# Altium schematic symbol library K60-mainboard-v3.1.SCHLIB: 81 symbols
Pins are listed as number, name and electrical type; pins without a type are passive.

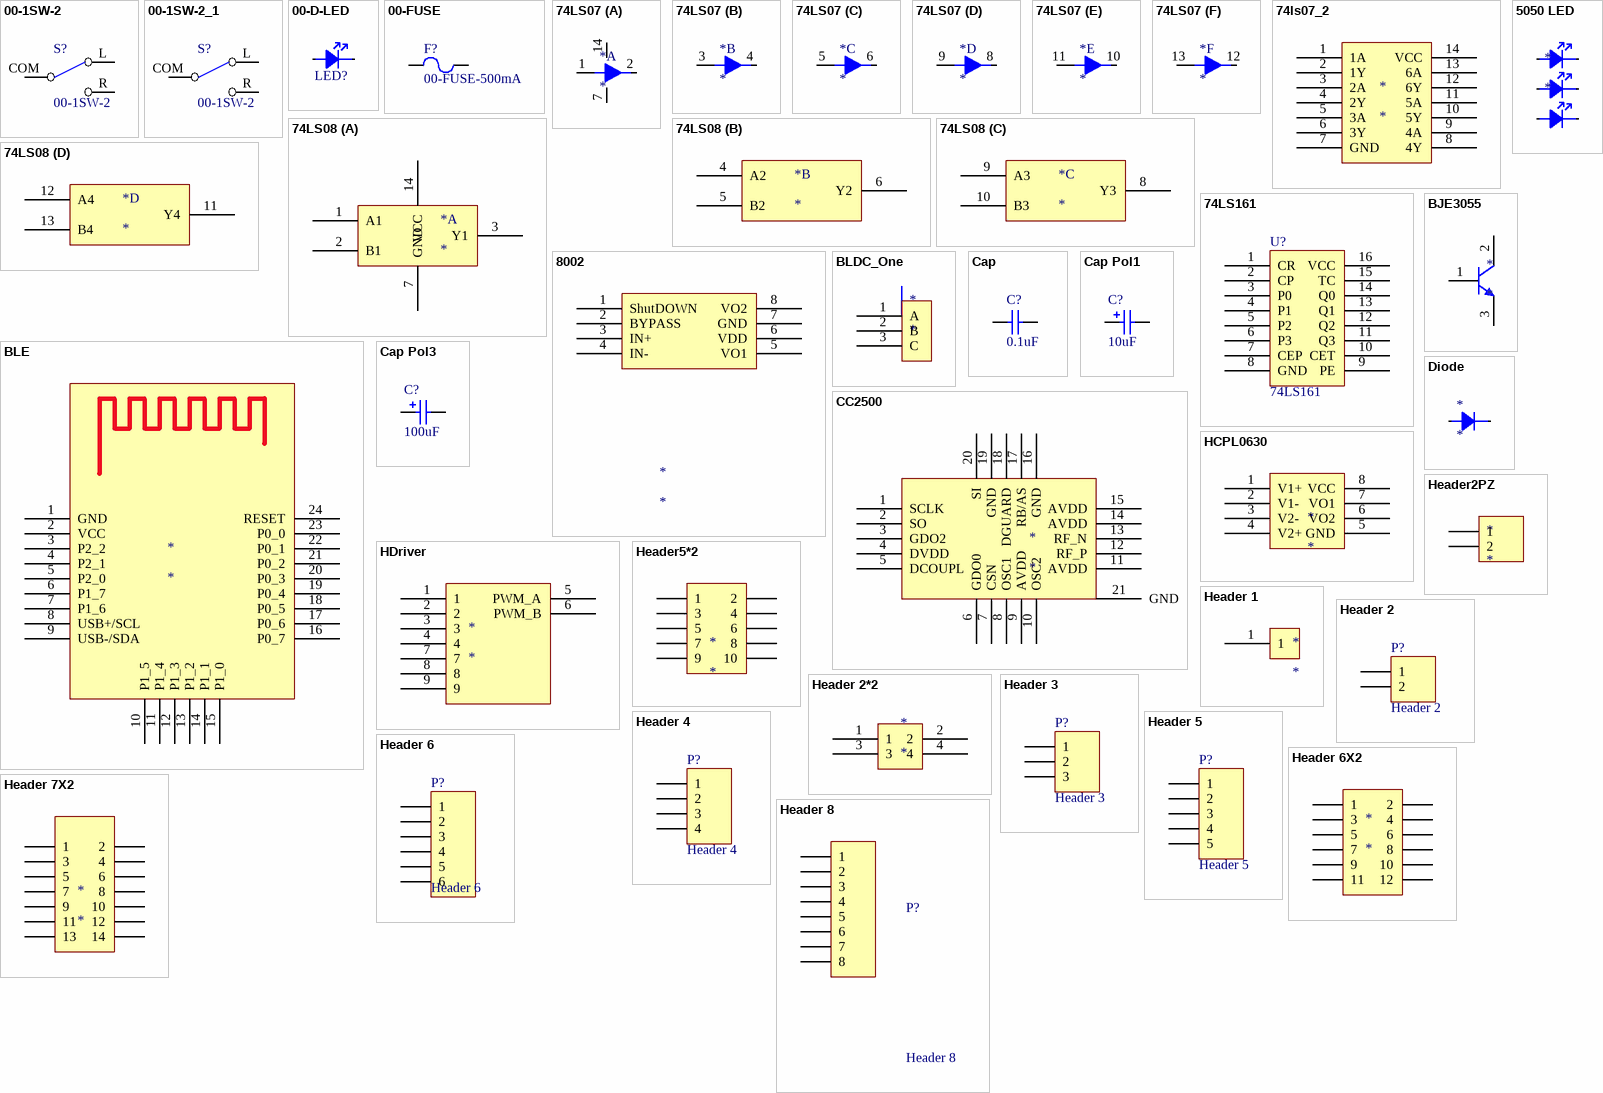
[diagram p0: symbols 00-1SW-2 to Header 8]

## 00-1SW-2
designator S?
footprint SW - duplicate - duplicate
pins: COM 2, L 1, R 3

## 00-1SW-2_1
designator S?, comment 00-1SW-2
footprint 单向大开关
pins: COM 2, L 1, R 3

## 00-D-LED
designator LED?, comment lED  (value not drawn)
footprint 0805D
pins: A 1, K 2

## 00-FUSE
designator F?, comment 00-FUSE-500mA
FUSE
footprint 0805R
pins: 1, 2
2 alternate drawings of the same symbol

## 74LS07
designator *
footprint 74ls07
part A pins: 1 4, 2 4, 7 GND, 14 VCC, A2 3
part B pins: 3 4, 4, A2 3
part C pins: 5 4, 6 4, A2 3
part D pins: 8 4, 9 4, A2 3
part E pins: 10 4, 11 4, A2 3
part F pins: 12 4, 13 4, A2 3

## 74ls07_2
designator *
footprint 74ls07
pins: 1 1A, 2 1Y, 3 2A, 4 2Y, 5 3A, 6 3Y, 7 GND, 8 4Y, 9 4A, 10 5Y, 11 5A, 12 6Y, 13 6A, 14 VCC

## 74LS08
designator *
part A pins: 1 A1, 2 B1, 3 Y1, 7 GND, 14 VCC
part B pins: 4 A2, 5 B2, 6 Y2
part C pins: 8 Y3, 9 A3, 10 B3
part D pins: 11 Y4, 12 A4, 13 B4

## 74LS161
designator U?
footprint 74LS161
pins: 1 CR, 2 CP, 3 P0, 4 P1, 5 P2, 6 P3, 7 CEP, 8 GND, 9 PE, 10 CET, 11 Q3, 12 Q2, 13 Q1, 14 Q0, 15 TC, 16 VCC

## 5050 LED
designator *
footprint 5050LED
pins: A1 1, A2 3, A3 5, K1 2, K2 4, K3 6

## 8002
designator *
footprint SO8
pins: 1 ShutDOWN, 2 BYPASS, 3 IN+, 4 IN-, 5 VO1, 6 VDD, 7 GND, 8 VO2

## BJE3055
designator *
pins: 1 B, 2 C, 3 E

## BLDC_One
designator *
footprint BLDC
pins: 1 A, 2 B, 3 C

## BLE
designator *
footprint BLE
pins: 1 GND, 2 VCC, 3 P2_2, 4 P2_1, 5 P2_0, 6 P1_7, 7 P1_6, 8 USB+/SCL, 9 USB-/SDA, 10 P1_5, 11 P1_4, 12 P1_3, 13 P1_2, 14 P1_1, 15 P1_0, 16 P0_7, 17 P0_6, 18 P0_5, 19 P0_4, 20 P0_3, 21 P0_2, 22 P0_1, 23 P0_0, 24 RESET

## Cap
designator C?  value 0.1uF  (hidden comment: Cap)
Capacitor; Published: 8-Jun-2000; LatestRevisionDate: 17-Jul-2002; LatestRevisionNote: Re-released for DXP Platform.; PackageReference: RAD-0.3; Publisher: Altium Limited
simulation model CAP (Capacitor)
signal-integrity model Cap
footprint 0805C
footprint CAP-MLCC-0603
pins: 1, 2

## Cap Pol1
designator C?  value 10uF  (hidden comment: Cap Pol1)
Polarized Capacitor (Radial); Published: 8-Jun-2000; LatestRevisionDate: 17-Jul-2002; LatestRevisionNote: Re-released for DXP Platform.; PackageReference: RB7.6-15; Publisher: Altium Limited
simulation model CAP (Capacitor)
signal-integrity model Cap Pol
footprint 6032C
pins: 1, 2
1 alternate drawing of the same symbol

## Cap Pol3
designator C?  value 100uF  (hidden comment: Cap Pol3)
Polarized Capacitor (Surface Mount); Published: 8-Jun-2000; LatestRevisionDate: 17-Jul-2002; LatestRevisionNote: Re-released for DXP Platform.; PackageReference: C0805; Publisher: Altium Limited
simulation model CAP (Capacitor)
signal-integrity model Cap Pol
footprint 6032C
footprint CAP-TAN-7343/CAPD
footprint SMD-EC-F10
pins: 1, 2
1 alternate drawing of the same symbol

## CC2500
designator *
footprint CC2500 (QFN, 20-Leads, Body 4.32x4.32mm, Pitch 0.50mm, Thermal Pad 2.40x2.20mm, IPC Low Density)
pins: 1 SCLK, 2 SO, 3 GDO2, 4 DVDD, 5 DCOUPL, 6 GDO0, 7 CSN, 8 OSC1, 9 AVDD, 10 OSC2, 11 AVDD, 12 RF_P, 13 RF_N, 14 AVDD, 15 AVDD, 16 GND, 17 RB/AS, 18 DGUARD, 19 GND, 20 SI, 21 GND

## Diode
designator *
footprint 0805D
footprint SS34
pins: A 1, K 2

## HCPL0630
designator *
footprint SOIC8
pins: 1 V1+, 2 V1-, 3 V2-, 4 V2+, 5 GND, 6 VO2, 7 VO1, 8 VCC

## HDriver
designator *
footprint Hdriver
pins: 1, 2, 3, 4, 5 PWM_A, 6 PWM_B, 7, 8, 9

## Header2PZ
designator *
footprint Header2 PZ
pins: 1, 2

## Header5*2
designator *
footprint Header 5X2
pins: 1, 2, 3, 4, 5, 6, 7, 8, 9, 10

## Header 1
designator *
footprint HeaderX1
pins: 1

## Header 2
designator P?
Header, 2-Pin; LatestRevisionDate: 17-Jul-2002; LatestRevisionNote: Re-released for DXP Platform.; Publisher: Altium Limited
signal-integrity model Connector
footprint J2-白色接口
pins: 1, 2

## Header 2*2
designator *
footprint PCBComponent_1
pins: 1, 2, 3, 4

## Header 3
designator P?
Header, 3-Pin; LatestRevisionDate: 17-Jul-2002; LatestRevisionNote: Re-released for DXP Platform.; Publisher: Altium Limited
footprint HDR1X3 (Connector; Header; 3 Position)
signal-integrity model Connector
pins: 1, 2, 3

## Header 4
designator P?
Header, 4-Pin; LatestRevisionDate: 17-Jul-2002; LatestRevisionNote: Re-released for DXP Platform.; Publisher: Altium Limited
footprint HDR1X4 (Connector; Header; 4 Position)
signal-integrity model Connector
footprint Green_4P
pins: 1, 2, 3, 4

## Header 5
designator P?
Header, 5-Pin; LatestRevisionDate: 17-Jul-2002; LatestRevisionNote: Re-released for DXP Platform.; Publisher: Altium Limited
footprint HDR1X5 (Connector; Header; 5 Position)
signal-integrity model Connector
pins: 1, 2, 3, 4, 5

## Header 6
designator P?
Header, 6-Pin; LatestRevisionDate: 17-Jul-2002; LatestRevisionNote: Re-released for DXP Platform.; Publisher: Altium Limited
signal-integrity model Connector
footprint HDR1X6 (Connector; Header; 5 Position)
pins: 1, 2, 3, 4, 5, 6

## Header 6X2
designator *
footprint Header 6X2
pins: 1, 2, 3, 4, 5, 6, 7, 8, 9, 10, 11, 12

## Header 7X2
designator *
footprint Header 7X2
pins: 1, 2, 3, 4, 5, 6, 7, 8, 9, 10, 11, 12, 13, 14

## Header 8
designator P?
Header, 8-Pin; LatestRevisionDate: 17-Jul-2002; LatestRevisionNote: Re-released for DXP Platform.; Publisher: Altium Limited
footprint HDR1X8 (Connector; Header; 8 Position)
signal-integrity model Connector
pins: 1, 2, 3, 4, 5, 6, 7, 8

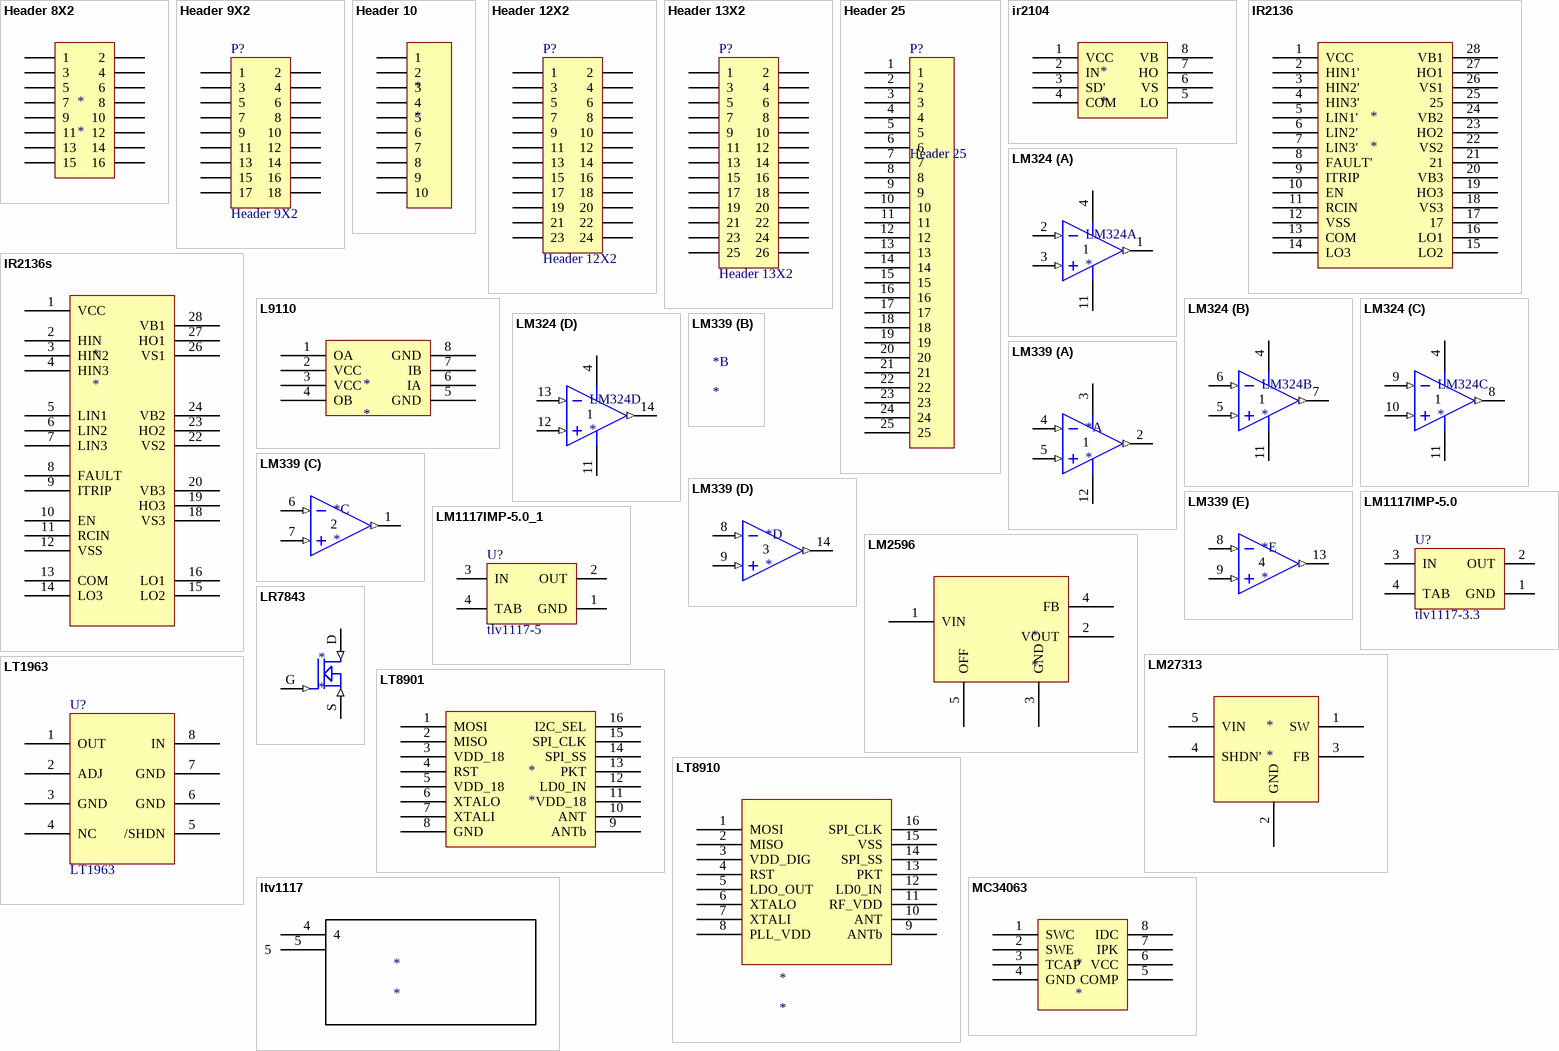
[diagram p1: symbols Header 8X2 to MC34063]

## Header 8X2
designator *
footprint Header 8X2
pins: 1, 2, 3, 4, 5, 6, 7, 8, 9, 10, 11, 12, 13, 14, 15, 16

## Header 9X2
designator P?
Header, 9-Pin, Dual row; LatestRevisionDate: 17-Jul-2002; LatestRevisionNote: Re-released for DXP Platform.; Publisher: Altium Limited
footprint HDR2X9 (Connector; Header; 9x2 Position)
signal-integrity model Connector
pins: 1, 2, 3, 4, 5, 6, 7, 8, 9, 10, 11, 12, 13, 14, 15, 16, 17, 18

## Header 10
designator *
pins: 1, 2, 3, 4, 5, 6, 7, 8, 9, 10

## Header 12X2
designator P?
Header, 12-Pin, Dual row; LatestRevisionDate: 17-Jul-2002; LatestRevisionNote: Re-released for DXP Platform.; Publisher: Altium Limited
footprint HDR2X12 (Connector; Header; 12x2 Position)
signal-integrity model Connector
pins: 1, 2, 3, 4, 5, 6, 7, 8, 9, 10, 11, 12, 13, 14, 15, 16, 17, 18, 19, 20, 21, 22, 23, 24

## Header 13X2
designator P?
Header, 13-Pin, Dual row; LatestRevisionDate: 17-Jul-2002; LatestRevisionNote: Re-released for DXP Platform.; Publisher: Altium Limited
footprint HDR2X13 (Connector; Header; 13x2 Position)
signal-integrity model Connector
pins: 1, 2, 3, 4, 5, 6, 7, 8, 9, 10, 11, 12, 13, 14, 15, 16, 17, 18, 19, 20, 21, 22, 23, 24, 25, 26

## Header 25
designator P?
Header, 25-Pin; LatestRevisionDate: 17-Jul-2002; LatestRevisionNote: Re-released for DXP Platform.; Publisher: Altium Limited
footprint HDR1X25_1.27
signal-integrity model Connector
pins: 1, 2, 3, 4, 5, 6, 7, 8, 9, 10, 11, 12, 13, 14, 15, 16, 17, 18, 19, 20, 21, 22, 23, 24, 25

## ir2104
designator *
footprint SOIC8
pins: 1 VCC, 2 IN, 3 SD', 4 COM, 5 LO, 6 VS, 7 HO, 8 VB

## IR2136
designator *
footprint SOIC 28 (SOIC, 28-Leads, Body 17.90x7.50mm, Pitch 1.27mm, IPC Medium Density)
pins: 1 VCC, 2 HIN1', 3 HIN2', 4 HIN3', 5 LIN1', 6 LIN2', 7 LIN3', 8 FAULT', 9 ITRIP, 10 EN, 11 RCIN, 12 VSS, 13 COM, 14 LO3, 15 LO2, 16 LO1, 17, 18 VS3, 19 HO3, 20 VB3, 21, 22 VS2, 23 HO2, 24 VB2, 25, 26 VS1, 27 HO1, 28 VB1

## IR2136s
designator *
footprint ir2136s
pins: 1 VCC, 2 HIN, 3 HIN2, 4 HIN3, 5 LIN1, 6 LIN2, 7 LIN3, 8 FAULT, 9 ITRIP, 10 EN, 11 RCIN, 12 VSS, 13 COM, 14 LO3, 15 LO2, 16 LO1, 17 hidden, 18 VS3, 19 HO3, 20 VB3, 21 hidden, 22 VS2, 23 HO2, 24 VB2, 25 hidden, 26 VS1, 27 HO1, 28 VB1

## L9110
designator *
footprint L9110
pins: 1 OA, 2 VCC, 3 VCC, 4 OB, 5 GND, 6 IA, 7 IB, 8 GND

## LM324
designator LM324
footprint SOP14
part A pins: 1 OUT (out), 2 IN- (in), 3 IN+ (in), 4 VEE (power), 11 VEE (power)
part B pins: 4 VEE (power), 5 IN+ (in), 6 IN- (in), 7 OUT (out), 11 VEE (power)
part C pins: 4 VEE (power), 8 OUT (out), 9 IN- (in), 10 IN+ (in), 11 VEE (power)
part D pins: 4 VEE (power), 11 VEE (power), 12 IN+ (in), 13 IN- (in), 14 OUT (out)

## LM339
designator *
part A pins: 2 OUT (out), 3 VEE (power), 4 IN- (in), 5 IN+ (in), 12 (power)
part C pins: 1 OUT (out), 6 IN- (in), 7 IN+ (in)
part D pins: 8 IN- (in), 9 IN+ (in), 14 OUT (out)
part E pins: 8 IN- (in), 9 IN+ (in), 13 OUT (out)

## LM1117IMP-5.0
designator U?, comment tlv1117-3.3
800mA Low-Dropout Linear Regulator; PartNumber: LM1117IMP-5.0; Manufacturer: National Semiconductor; CompType: LDO IC; PackageTopMarking: XYTT*N06B; PowerWise: N; Published: 4-Dec-2008; DatasheetVersion: Apr-2006; PackageVersion: revB, Apr-2003; PackageReference: MP04A; Publisher: Altium Limited; PackageDescription: Molded SOT-223, 6.50 x 3.56 x 1.6mm Body, 4 Lead, 2.3mm Pitch; RoHS: O; PinCount: 4; DigiKeyPartNumber: LM1117IMP-5.0CT-ND; Code_JEDEC: TO-261-AA; Code_IPC: SOT223-4; ComponentLink1Description: LM1117 Datasheet; ComponentLink1URL: http://www.national.com/ds/LM/LM1117.pdf; ComponentLink2Description: LM1117 Web Page; ComponentLink2URL: http://www.national.com/pf/LM/LM1117.html; ComponentLink3Description: MP04A Package Page; ComponentLink3URL: http://www.national.com/packaging/folders/mp04a.html
footprint LM1117
pins: 1 GND (power), 2 OUT (power), 3 IN (power), 4 TAB (power)

## LM1117IMP-5.0_1
designator U?, comment tlv1117-5
800mA Low-Dropout Linear Regulator; PartNumber: LM1117IMP-5.0; Manufacturer: National Semiconductor; CompType: LDO IC; PackageTopMarking: XYTT*N06B; PowerWise: N; Published: 4-Dec-2008; DatasheetVersion: Apr-2006; PackageVersion: revB, Apr-2003; PackageReference: MP04A; Publisher: Altium Limited; PackageDescription: Molded SOT-223, 6.50 x 3.56 x 1.6mm Body, 4 Lead, 2.3mm Pitch; RoHS: O; PinCount: 4; DigiKeyPartNumber: LM1117IMP-5.0CT-ND; Code_JEDEC: TO-261-AA; Code_IPC: SOT223-4; ComponentLink1Description: LM1117 Datasheet; ComponentLink1URL: http://www.national.com/ds/LM/LM1117.pdf; ComponentLink2Description: LM1117 Web Page; ComponentLink2URL: http://www.national.com/pf/LM/LM1117.html; ComponentLink3Description: MP04A Package Page; ComponentLink3URL: http://www.national.com/packaging/folders/mp04a.html
footprint LM1117
pins: 1 GND (power), 2 OUT (power), 3 IN (power), 4 TAB (power)

## LM2596
designator *
pins: 1 VIN, 2 VOUT, 3 GND, 4 FB, 5 OFF

## LM27313
designator *
footprint LM27313 (SOT23, 5-Leads, Body 2.90x2.80mm, Pitch 0.95mm, IPC Medium Density)
pins: 1 SW, 2 GND, 3 FB, 4 SHDN', 5 VIN

## LR7843
designator *
footprint LR7843 (D-PAK, 3-Pads, Body 6.20x6.72mm (max), IPC Medium Density)
pins: D (in), G (in), S (in)

## LT1963
designator U?
LT1963-ADJ
footprint LT1963
pins: 1 OUT, 2 ADJ, 3 GND, 4 NC, 5 /SHDN, 6 GND, 7 GND, 8 IN

## LT8901
designator *
footprint SOP16
pins: 1 MOSI, 2 MISO, 3 VDD_18, 4 RST, 5 VDD_18, 6 XTALO, 7 XTALI, 8 GND, 9 ANTb, 10 ANT, 11 VDD_18, 12 LD0_IN, 13 PKT, 14 SPI_SS, 15 SPI_CLK, 16 I2C_SEL

## LT8910
designator *
footprint LT8910 (SOP, 16-Leads, Body 4.90x3.90mm, Pitch 0.64mm, IPC Medium Density)
pins: 1 MOSI, 2 MISO, 3 VDD_DIG, 4 RST, 5 LDO_OUT, 6 XTALO, 7 XTALI, 8 PLL_VDD, 9 ANTb, 10 ANT, 11 RF_VDD, 12 LD0_IN, 13 PKT, 14 SPI_SS, 15 VSS, 16 SPI_CLK

## ltv1117
designator *
pins: 4, 5

## MC34063
designator *
pins: 1 SWC, 2 SWE, 3 TCAP, 4 GND, 5 COMP, 6 VCC, 7 IPK, 8 IDC

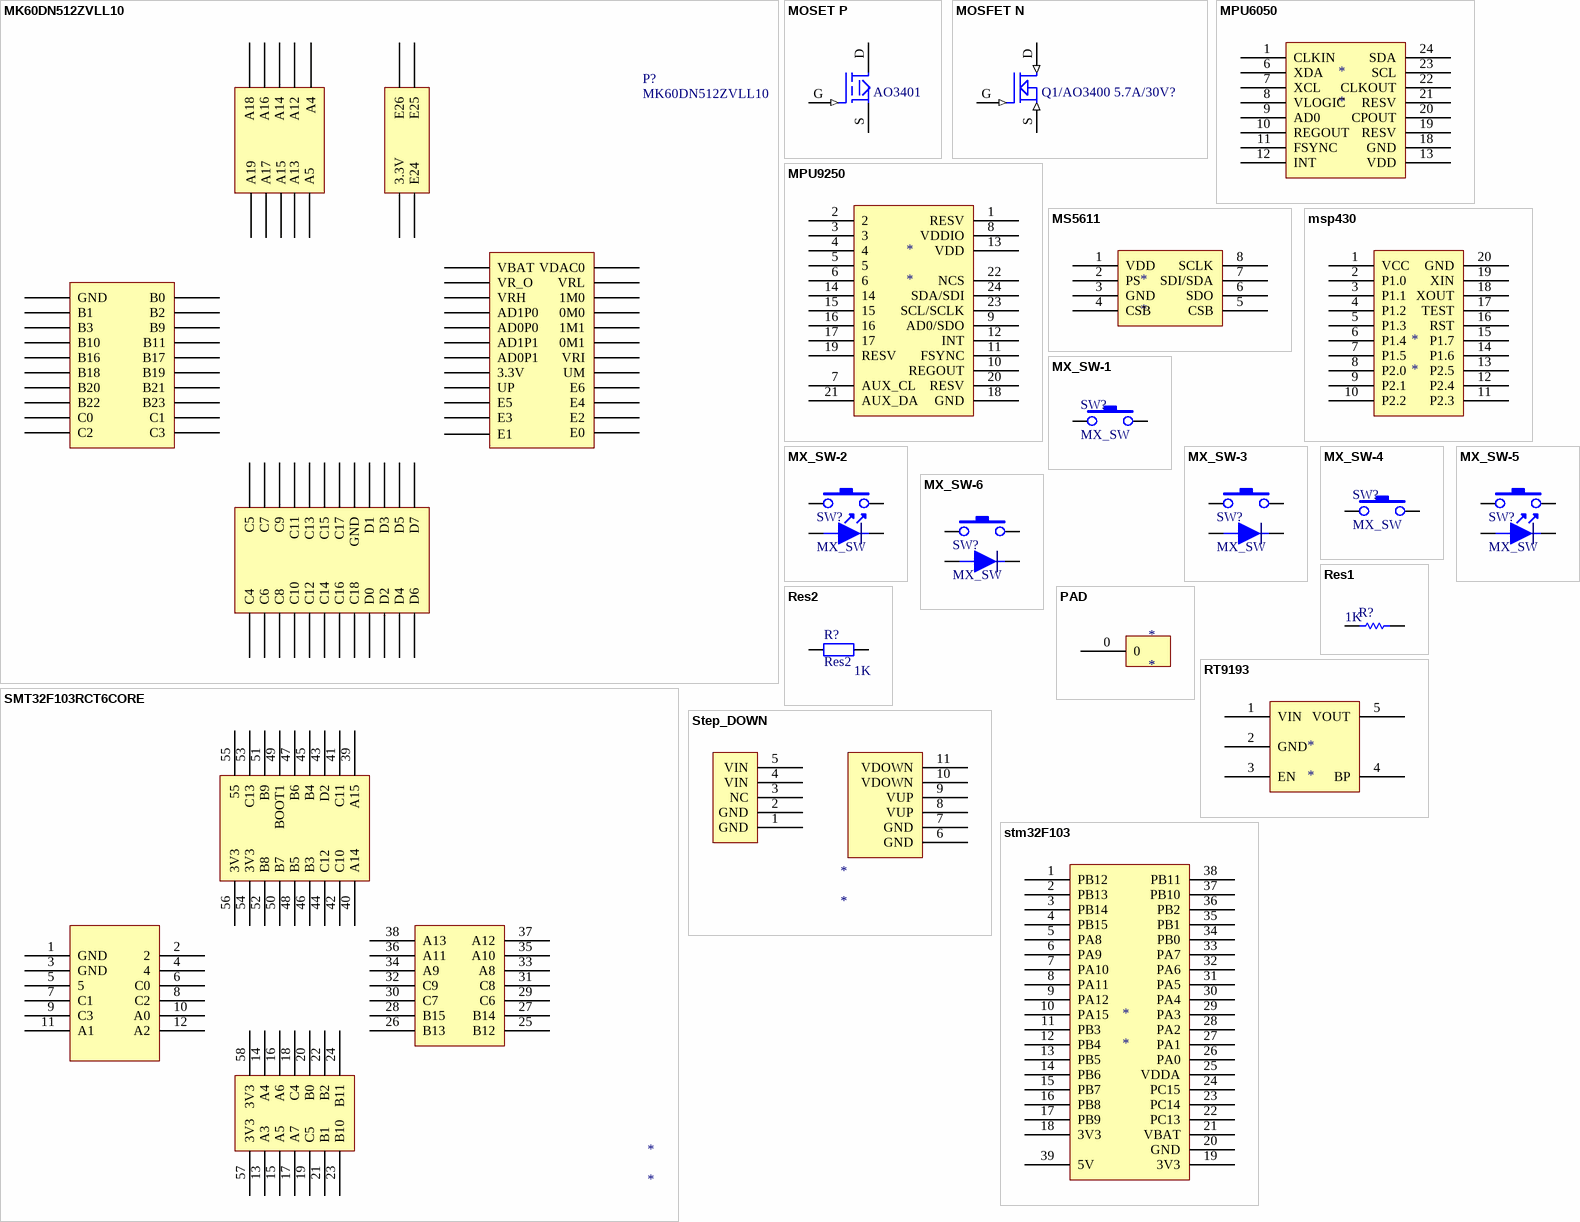
[diagram p2: symbols MK60DN512ZVLL10 to stm32F103]

## MK60DN512ZVLL10
designator P?
footprint MK60DN512ZVLL10
pins: 1 E0, 2 E1, 3 E2, 4 E3, 5 E4, 6 E5, 7 E6, 8 UP, 9 UM, 10 3.3V, 11 VRI, 12 AD0P1, 13 0M1, 14 AD1P1, 15 1M1, 16 AD0P0, 17 0M0, 18 AD1P0, 19 1M0, 20 VRH, 21 VRL, 22 VR_O, 23 VDAC0, 24 VBAT, 25 E24, 26 E25, 27 3.3V, 28 E26, 29 A5, 30 A4, 31 A13, 32 A12, 33 A15, 34 A14, 35 A17, 36 A16, 37 A19, 38 A18, 39 GND, 40 B0, 41 B1, 42 B2, 43 B3, 44 B9, 45 B10, 46 B11, 47 B16, 48 B17, 49 B18, 50 B19, 51 B20, 52 B21, 53 B22, 54 B23, 55 C0, 56 C1, 57 C2, 58 C3, 59 C4, 60 C5, 61 C6, 62 C7, 63 C8, 64 C9, 65 C10, 66 C11, 67 C12, 68 C13, 69 C14, 70 C15, 71 C16, 72 C17, 73 C18, 74 GND, 75 D0, 76 D1, 77 D2, 78 D3, 79 D4, 80 D5, 81 D6, 82 D7

## MOSET P
designator AO3401, comment MOSFET P  (value not drawn)
footprint NMOS_SOT23
pins: D, G (in), S

## MOSFET N
designator Q1/AO3400 5.7A/30V?  (value not drawn)
footprint NMOS_SOT23
pins: D (in), G (in), S (in)

## MPU6050
designator *
footprint MPU6050 (QFN, 24-Leads, Body 4.00x4.00mm, Pitch 0.50mm, Thermal Pad 2.60x2.70mm, IPC Medium Density)
pins: 1 CLKIN, 6 XDA, 7 XCL, 8 VLOGIC, 9 AD0, 10 REGOUT, 11 FSYNC, 12 INT, 13 VDD, 18 GND, 19 RESV, 20 CPOUT, 21 RESV, 22 CLKOUT, 23 SCL, 24 SDA

## MPU9250
designator *
footprint MPU9250 (QFN, 24-Leads, Body 3.00x3.00mm, Pitch 0.40mm, Thermal Pad 1.54x1.70mm, IPC Medium Density)
pins: 1 RESV, 2, 3, 4, 5, 6, 7 AUX_CL, 8 VDDIO, 9 AD0/SDO, 10 REGOUT, 11 FSYNC, 12 INT, 13 VDD, 14, 15, 16, 17, 18 GND, 19 RESV, 20 RESV, 21 AUX_DA, 22 NCS, 23 SCL/SCLK, 24 SDA/SDI

## MS5611
designator *
footprint MS5611
pins: 1 VDD, 2 PS, 3 GND, 4 CSB, 5 CSB, 6 SDO, 7 SDI/SDA, 8 SCLK

## msp430
designator *
pins: 1 VCC, 2 P1.0, 3 P1.1, 4 P1.2, 5 P1.3, 6 P1.4, 7 P1.5, 8 P2.0, 9 P2.1, 10 P2.2, 11 P2.3, 12 P2.4, 13 P2.5, 14 P1.6, 15 P1.7, 16 RST, 17 TEST, 18 XOUT, 19 XIN, 20 GND

## MX_SW-1
designator SW?, comment MX_SW
without Fixation pins  1-Pole
footprint MX_SW-1 (without Fixation pins  1-Pole)
pins: 1, 2

## MX_SW-2
designator SW?, comment MX_SW
without Fixation pins  1-Pole w/LED
footprint MX_SW-2 (without Fixation pins  1-Pole w/LED)
pins: 1, 2, 3, 4

## MX_SW-3
designator SW?, comment MX_SW
without Fixation pins  1-Pole w/Diode
footprint MX_SW-3 (without Fixation pins  1-Pole w/Diode)
pins: 1, 2, 3, 4

## MX_SW-4
designator SW?, comment MX_SW
with Fixation pins  1-Pole
footprint MX_SW-4 (with Fixation pins  1-Pole)
pins: 1, 2

## MX_SW-5
designator SW?, comment MX_SW
with Fixation pins  1-Pole w/LED
footprint MX_SW-5 (with Fixation pins  1-Pole w/LED)
pins: 1, 2, 3, 4

## MX_SW-6
designator SW?, comment MX_SW
with Fixation pins  1-Pole w/Diode
footprint MX_SW-6 (with Fixation pins  1-Pole w/Diode)
pins: 1, 2, 3, 4

## PAD
designator *
footprint PAD
pins: 0

## Res1
designator R?  value 1K  (hidden comment: Res1)
Resistor; Published: 8-Jun-2000; LatestRevisionDate: 17-Jul-2002; LatestRevisionNote: Re-released for DXP Platform.; PackageReference: AXIAL-0.3; Publisher: Altium Limited
footprint 0805R
simulation model RESISTOR (Resistor)
signal-integrity model Res
footprint RES-0603
footprint 2512R
pins: 1, 2

## Res2
designator R?  value 1K
Resistor; Published: 8-Jun-2000; LatestRevisionDate: 17-Jul-2002; LatestRevisionNote: Re-released for DXP Platform.; PackageReference: AXIAL-0.4; Publisher: Altium Limited
simulation model RESISTOR (Resistor)
signal-integrity model Res
footprint 0805R
pins: 1, 2

## RT9193
designator *
footprint RT9193
pins: 1 VIN, 2 GND, 3 EN, 4 BP, 5 VOUT

## SMT32F103RCT6CORE
designator *
footprint STM32103core
pins: 1 GND, 2, 3 GND, 4, 5, 6 C0, 7 C1, 8 C2, 9 C3, 10 A0, 11 A1, 12 A2, 13 A3, 14 A4, 15 A5, 16 A6, 17 A7, 18 C4, 19 C5, 20 B0, 21 B1, 22 B2, 23 B10, 24 B11, 25 B12, 26 B13, 27 B14, 28 B15, 29 C6, 30 C7, 31 C8, 32 C9, 33 A8, 34 A9, 35 A10, 36 A11, 37 A12, 38 A13, 39 A15, 40 A14, 41 C11, 42 C10, 43 D2, 44 C12, 45 B4, 46 B3, 47 B6, 48 B5, 49 BOOT1, 50 B7, 51 B9, 52 B8, 53 C13, 54 3V3, 55, 56 3V3, 57 3V3, 58 3V3

## Step_DOWN
designator *
pins: 1 GND, 2 GND, 3 NC, 4 VIN, 5 VIN, 6 GND, 7 GND, 8 VUP, 9 VUP, 10 VDOWN, 11 VDOWN

## stm32F103
designator *
footprint STM32
pins: 1 PB12, 2 PB13, 3 PB14, 4 PB15, 5 PA8, 6 PA9, 7 PA10, 8 PA11, 9 PA12, 10 PA15, 11 PB3, 12 PB4, 13 PB5, 14 PB6, 15 PB7, 16 PB8, 17 PB9, 18 3V3, 19 3V3, 20 GND, 21 VBAT, 22 PC13, 23 PC14, 24 PC15, 25 VDDA, 26 PA0, 27 PA1, 28 PA2, 29 PA3, 30 PA4, 31 PA5, 32 PA6, 33 PA7, 34 PB0, 35 PB1, 36 PB2, 37 PB10, 38 PB11, 39 5V

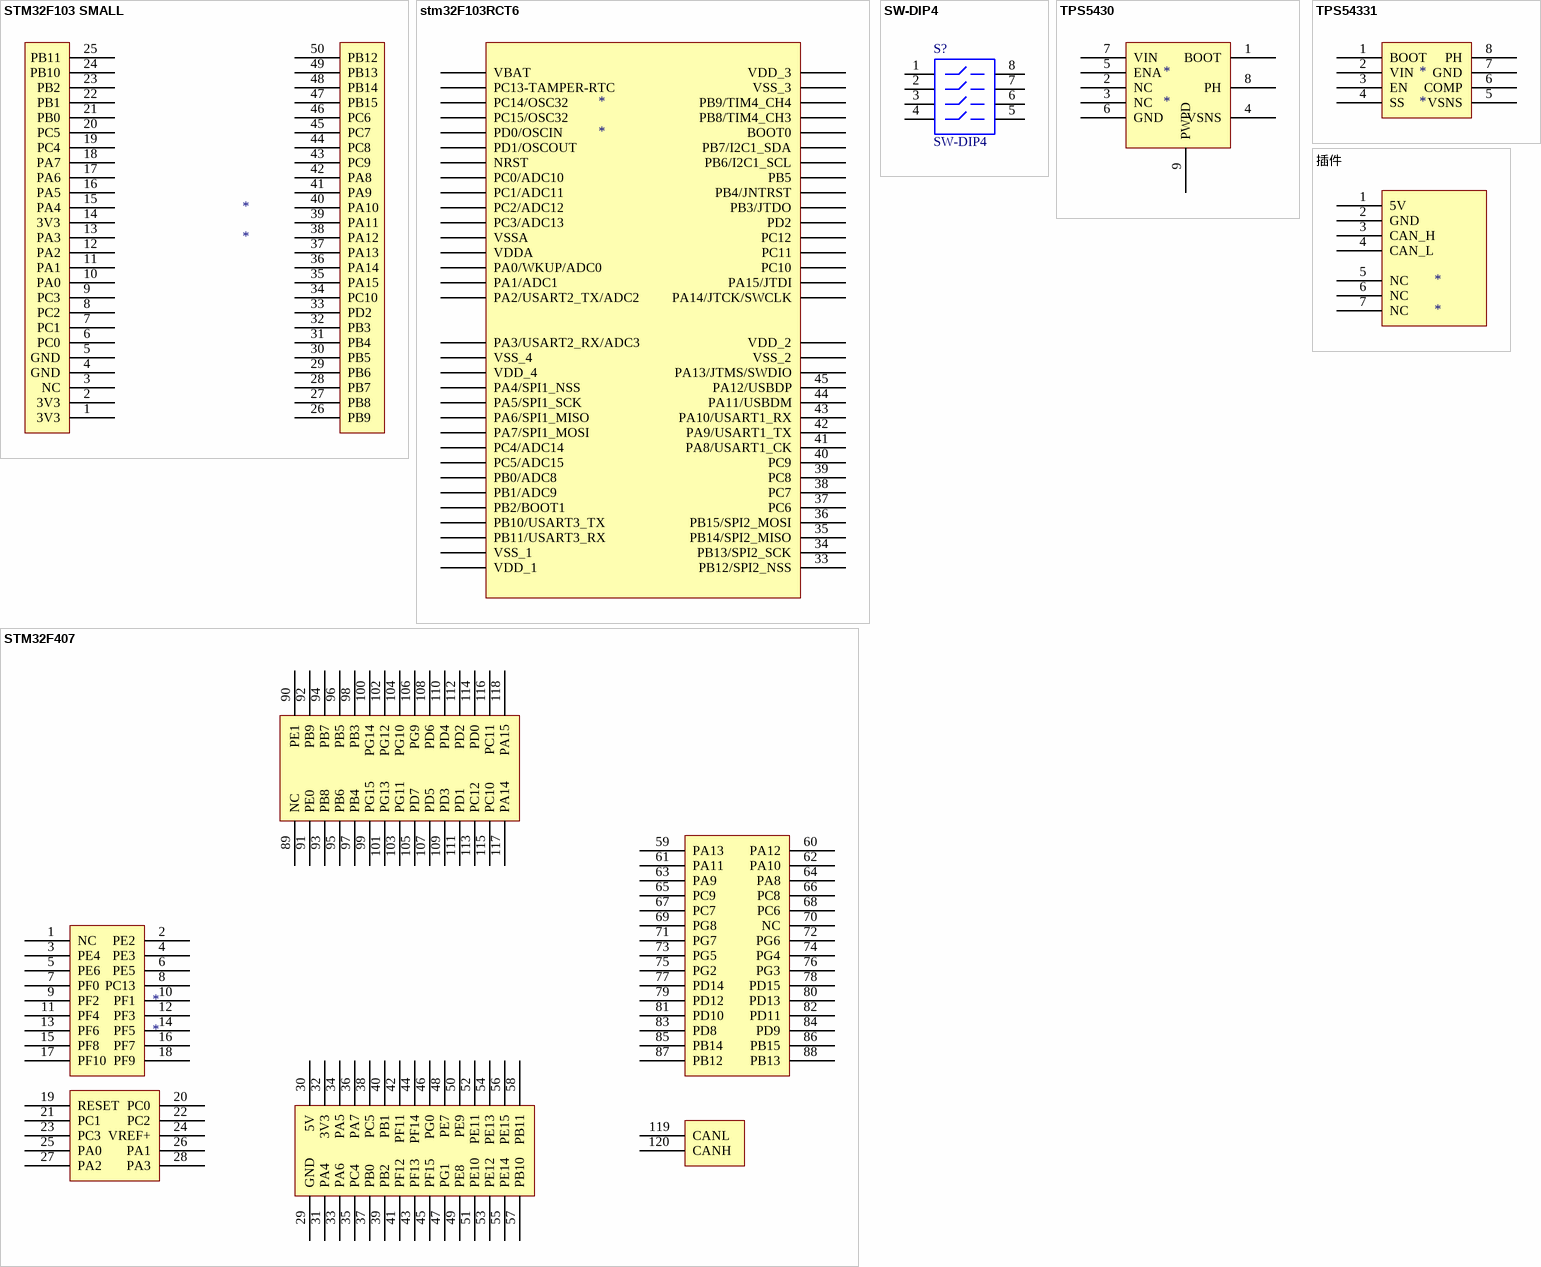
[diagram p3: symbols STM32F103 SMALL to 插件]

## STM32F103 SMALL
designator *
footprint STM32F103Small
pins: 1 3V3, 2 3V3, 3 NC, 4 GND, 5 GND, 6 PC0, 7 PC1, 8 PC2, 9 PC3, 10 PA0, 11 PA1, 12 PA2, 13 PA3, 14 3V3, 15 PA4, 16 PA5, 17 PA6, 18 PA7, 19 PC4, 20 PC5, 21 PB0, 22 PB1, 23 PB2, 24 PB10, 25 PB11, 26 PB9, 27 PB8, 28 PB7, 29 PB6, 30 PB5, 31 PB4, 32 PB3, 33 PD2, 34 PC10, 35 PA15, 36 PA14, 37 PA13, 38 PA12, 39 PA11, 40 PA10, 41 PA9, 42 PA8, 43 PC9, 44 PC8, 45 PC7, 46 PC6, 47 PB15, 48 PB14, 49 PB13, 50 PB12

## stm32F103RCT6
designator *
footprint STM32F103RCT6
pins: 1 VBAT, 2 PC13-TAMPER-RTC, 3 PC14/OSC32, 4 PC15/OSC32, 5 PD0/OSCIN, 6 PD1/OSCOUT, 7 NRST, 8 PC0/ADC10, 9 PC1/ADC11, 10 PC2/ADC12, 11 PC3/ADC13, 12 VSSA, 13 VDDA, 14 PA0/WKUP/ADC0, 15 PA1/ADC1, 16 PA2/USART2_TX/ADC2, 17 PA3/USART2_RX/ADC3, 18 VSS_4, 19 VDD_4, 20 PA4/SPI1_NSS, 21 PA5/SPI1_SCK, 22 PA6/SPI1_MISO, 23 PA7/SPI1_MOSI, 24 PC4/ADC14, 25 PC5/ADC15, 26 PB0/ADC8, 27 PB1/ADC9, 28 PB2/BOOT1, 29 PB10/USART3_TX, 30 PB11/USART3_RX, 31 VSS_1, 32 VDD_1, 33 PB12/SPI2_NSS, 34 PB13/SPI2_SCK, 35 PB14/SPI2_MISO, 36 PB15/SPI2_MOSI, 37 PC6, 38 PC7, 39 PC8, 40 PC9, 41 PA8/USART1_CK, 42 PA9/USART1_TX, 43 PA10/USART1_RX, 44 PA11/USBDM, 45 PA12/USBDP, 46 PA13/JTMS/SWDIO, 47 VSS_2, 48 VDD_2, 49 PA14/JTCK/SWCLK, 50 PA15/JTDI, 51 PC10, 52 PC11, 53 PC12, 54 PD2, 55 PB3/JTDO, 56 PB4/JNTRST, 57 PB5, 58 PB6/I2C1_SCL, 59 PB7/I2C1_SDA, 60 BOOT0, 61 PB8/TIM4_CH3, 62 PB9/TIM4_CH4, 63 VSS_3, 64 VDD_3

## STM32F407
designator *
footprint STM32F407
pins: 1 NC, 2 PE2, 3 PE4, 4 PE3, 5 PE6, 6 PE5, 7 PF0, 8 PC13, 9 PF2, 10 PF1, 11 PF4, 12 PF3, 13 PF6, 14 PF5, 15 PF8, 16 PF7, 17 PF10, 18 PF9, 19 RESET, 20 PC0, 21 PC1, 22 PC2, 23 PC3, 24 VREF+, 25 PA0, 26 PA1, 27 PA2, 28 PA3, 29 GND, 30 5V, 31 PA4, 32 3V3, 33 PA6, 34 PA5, 35 PC4, 36 PA7, 37 PB0, 38 PC5, 39 PB2, 40 PB1, 41 PF12, 42 PF11, 43 PF13, 44 PF14, 45 PF15, 46 PG0, 47 PG1, 48 PE7, 49 PE8, 50 PE9, 51 PE10, 52 PE11, 53 PE12, 54 PE13, 55 PE14, 56 PE15, 57 PB10, 58 PB11, 59 PA13, 60 PA12, 61 PA11, 62 PA10, 63 PA9, 64 PA8, 65 PC9, 66 PC8, 67 PC7, 68 PC6, 69 PG8, 70 NC, 71 PG7, 72 PG6, 73 PG5, 74 PG4, 75 PG2, 76 PG3, 77 PD14, 78 PD15, 79 PD12, 80 PD13, 81 PD10, 82 PD11, 83 PD8, 84 PD9, 85 PB14, 86 PB15, 87 PB12, 88 PB13, 89 NC, 90 PE1, 91 PE0, 92 PB9, 93 PB8, 94 PB7, 95 PB6, 96 PB5, 97 PB4, 98 PB3, 99 PG15, 100 PG14, 101 PG13, 102 PG12, 103 PG11, 104 PG10, 105 PD7, 106 PG9, 107 PD5, 108 PD6, 109 PD3, 110 PD4, 111 PD1, 112 PD2, 113 PC12, 114 PD0, 115 PC10, 116 PC11, 117 PA14, 118 PA15, 119 CANL, 120 CANH

## SW-DIP4
designator S?
DIP Switch; Published: 24-Mar-1999; LatestRevisionDate: 17-Jul-2002; LatestRevisionNote: Re-released for DXP Platform.; PackageReference: DIP-8; Publisher: Altium Limited
simulation model dpsw4 (Spice Subcircuit)
footprint DIP8
pins: 1, 2, 3, 4, 5, 6, 7, 8

## TPS5430
designator *
footprint TPS5430
pins: 1 BOOT, 2 NC, 3 NC, 4 VSNS, 5 ENA, 6 GND, 7 VIN, 8 PH, 9 PWPD

## TPS54331
designator *
footprint TPS5430
pins: 1 BOOT, 2 VIN, 3 EN, 4 SS, 5 VSNS, 6 COMP, 7 GND, 8 PH

## 插件
designator *
footprint 插件
pins: 1 5V, 2 GND, 3 CAN_H, 4 CAN_L, 5 NC, 6 NC, 7 NC